# EAGLE library part PTN (library texas)
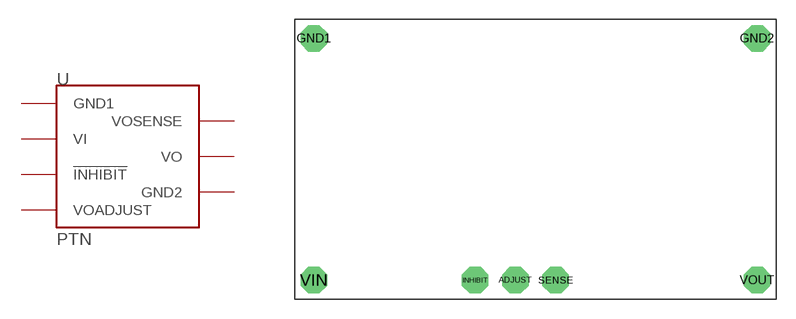
[diagram p125: symbol with the pads of PTN; footprint PTN]

Designator prefix -

## PTN78060  [PTN]
ADJUST  VI
GND1  GND1
GND2  VOSENSE
INHIBIT  !INHIBIT!
SENSE  VO
VIN  GND2
VOUT  VOADJUST

## PTN78020  [PTN]
ADJUST  VOADJUST
GND1  GND1
GND2  GND2
INHIBIT  !INHIBIT!
SENSE  VOSENSE
VIN  VI
VOUT  VO

## Footprint PTN (pad centres in mm)
drill 1.397 octagon: ADJUST -1.587,-9.525; GND1 -17.462,9.525; GND2 17.462,9.525; INHIBIT -4.763,-9.525; SENSE 1.587,-9.525; VIN -17.462,-9.525; VOUT 17.462,-9.525